# Altium footprint library KitDemov2.PcbLib: 49 footprints (part 1 of 4)
Each footprint in its own frame and in the unit in brackets; x right, y up, seen from the top. Pads: shape width x height; smd on the part's side, far side on the other; paste and mask are expansions set on the pad; w line width, h text height; cw(c..) or ccw(c..) is an arc to the next point about the centre after c.
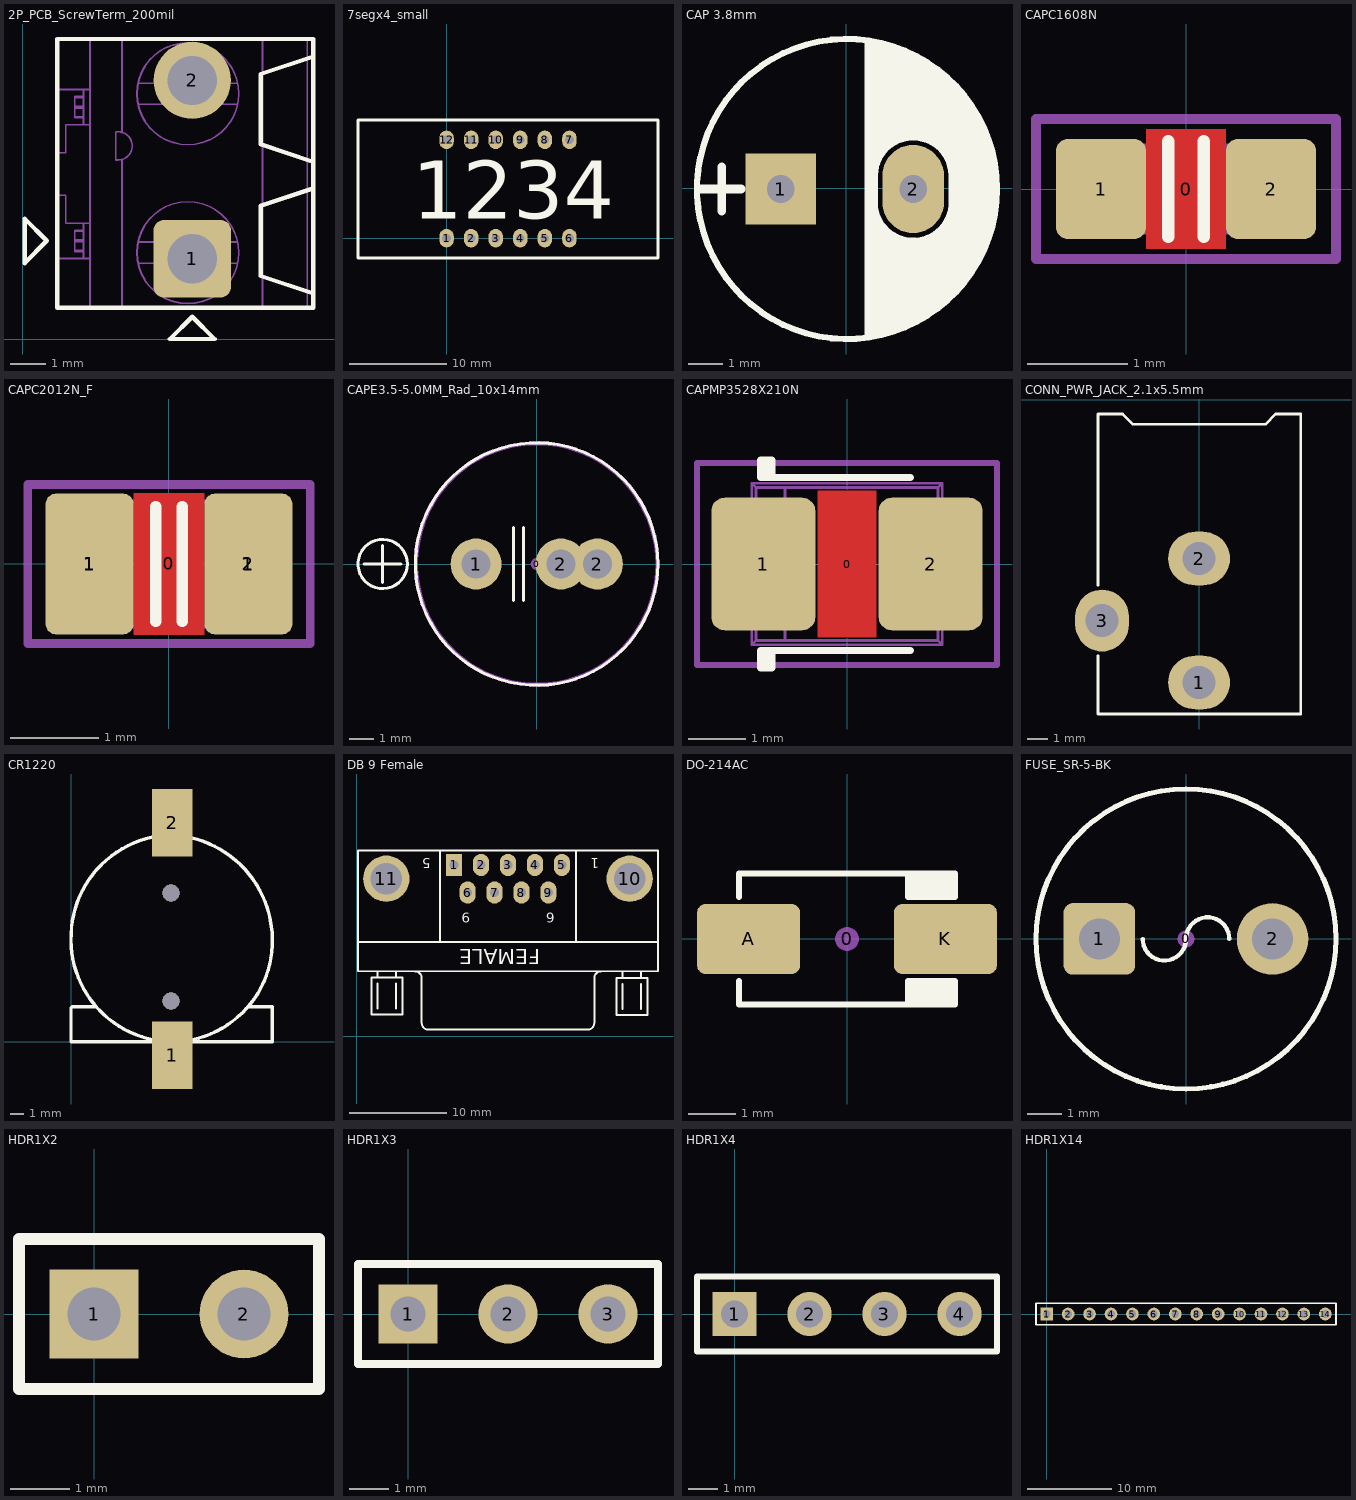
[diagram p0: the footprints below, top view; thin cyan lines are the x and y axes]

## 2P_PCB_ScrewTerm_200mil [mm]
pads (2):
  rrect25% 2.2x2.2 hole 1.4: 1(4.826,2.286)
  round 2.2 hole 1.4: 2(4.826,7.366)
Top Overlay:
  lines w0.127: 8.276,1.294 6.776,1.794 6.776,3.794 8.276,4.294 ; 8.276,5.044 6.776,5.544 6.776,7.544 8.276,8.044 ; 0.051,2.159 0.051,3.429 0.686,2.794 0.051,2.159 ; 0.976,0.889 8.276,0.889 8.276,8.544 0.976,8.544 0.976,0.889 ; 4.191,0 4.826,0.635 5.461,0 4.191,0
Mechanical 13:
  circle w0.05: c4.699,6.985 r1.45
  circle w0.05: c4.699,2.459 r1.45
  lines w0.05: 0.976,2.294 1.911,2.294 1.911,3.294 1.226,3.294 1.226,4.094 0.976,4.094 ; 0.976,5.304 1.226,5.304 1.226,6.104 1.911,6.104 1.911,7.104 0.976,7.104 ; 1.476,2.517 1.726,2.517 ; 1.476,2.767 1.726,2.767 ; 1.476,2.821 1.726,2.821 ; 1.476,3.071 1.726,3.071 ; 1.476,6.327 1.726,6.327 ; 1.476,6.577 1.726,6.577 ; 1.476,6.631 1.726,6.631 ; 1.476,6.881 1.726,6.881 ; 1.726,2.294 1.726,3.294 ; 1.726,2.494 1.476,2.494 1.476,3.094 1.726,3.094 ; 1.726,6.104 1.726,7.104 ; 1.726,6.304 1.476,6.304 1.476,6.904 1.726,6.904 ; 1.916,0.889 1.916,8.509 ; 2.826,0.889 2.826,5.114 ; 2.826,5.884 2.826,8.509 ; 3.28,2.159 6.118,2.159 ; 3.28,2.759 6.118,2.759 ; 3.28,6.685 6.118,6.685 ; 3.28,7.285 6.118,7.285 ; 6.826,0.889 6.826,8.509 ; 8.1,0.889 8.1,8.509 ; 0.976,0.889 8.276,0.889 8.276,8.509 0.976,8.509 0.976,0.889 ; 2.644,5.099 2.644,5.899 2.717,5.899 cw(c2.717,5.499) 2.717,5.099 2.644,5.099
3D body: height 8.5, standoff -3.5, extent 0.976,0.884 8.276,8.504

## 7segx4_small [mm]
pads (12):
  oval 1.5x1.9 hole 0.9: 1(0,0) 2(2.54,0) 3(5.08,0) 4(7.62,0) 5(10.16,0) 6(12.7,0) 7(12.7,10.16) 8(10.16,10.16) 9(7.62,10.16) 10(5.08,10.16) 11(2.54,10.16) 12(0,10.16)
Top Overlay:
  lines w0.3: -9.144,-2.032 -9.144,12.192 21.844,12.192 21.844,-2.032 -9.144,-2.032
  text "1234" at -3.556,2.032 h6
3D body: height 7, standoff -6.2, extent -8.664,-1.92 21.336,12.08

## CAP 3.8mm [mil] "16V 470uF"
height 787.4
pads (2):
  rect 80x80 hole 31.5: 1(-74,-1)
  oval 70x100 hole 31.5: 2(76,-1)
Top Overlay:
  circle w7: c1,-1 r170
  region: 26,24 61,59 88.93,59.33 95.59,58.01 101.24,54.24 101,54 107.63,47.7 110.3,43.71 111.24,39 111,39 116.24,34.24 120.01,28.59 121.33,21.93 121,21.93 121.33,-28.93 120.01,-35.59 116.24,-41.24 116,-41 104.7,-52.63 100.71,-55.3 96,-56.24 96.24,-56.24 90.59,-60.01 83.93,-61.33 83.93,-61 70.14,-61.29 61.23,-60.12 52.92,-56.68 45.79,-51.21 46,-51 34.37,-39.7 31.7,-35.71 30.76,-31 31,-31 26,-31 26,-171 81,-151 121,-121 151,-81 171,-21 171,19 156,69 126,114 91,144 46,164 26,169
  lines w10: -164,-1 -119,-1 ; -141,-26 -141,24 ; 26,-166 26,164 ; 26,24 31,24 ; 31,-21 31,29 ; 31,-11 ccw(c76,-16) 71,-61 ccw(c76,-16) 121,-21 121,14 ccw(c76,14) 76,59 ccw(c76,14) 31,14
3D body: height 445.89, standoff -754.41, extent -158.96,-158.48 156,156.48

## CAPC1608N [mm] "Chip Capacitor, Body 1.6x0.8mm, 0603, IPC Medium Density"
height 0.8
pads (3):
  round 0.254 on Mech14: 0(0,0)
  rrect25% 0.9x1 smd: 1(-0.85,0) 2(0.85,0)
Top Layer:
  pour cut-out: -0.4,0.6 0.4,0.6 0.4,-0.6 -0.4,-0.6
Top Overlay:
  lines w0.127: -0.178,-0.476 -0.178,0.476 ; 0.178,-0.476 0.178,0.476
Mechanical 13:
  lines w0.05: -0.55,-0.43 0.55,-0.43 ; -0.55,0.43 0.55,0.43 ; -0.85,-0.45 -0.85,0.45 -0.55,0.45 -0.55,-0.45 -0.85,-0.45 ; 0.55,-0.45 0.55,0.45 0.85,0.45 0.85,-0.45 0.55,-0.45
Mechanical 14:
  lines w0.1: -1.5,-0.7 -1.5,0.7 1.5,0.7 1.5,-0.7 -1.5,-0.7
3D body: height 0.89, standoff -0.01, extent -0.85,-0.45 0.85,0.45

## CAPC2012N_F [mm] "Chip Capacitor, Body 2.0x1.2mm, 0805, IPC Medium Density, for Flex circuits"
height 1.2
pads (7):
  round 0.254 on Mech14: 0(0,0)
  rrect50% 1.2x1.4 on Top Solder: 1(-0.9,0) 1(0.9,0)
  rrect25% 1x1.6 smd paste-1: 1(-0.9,0) 2(0.9,0)
  rrect50% 1x1.4 on Top Paste: 1(-0.9,0) 1(0.9,0)
Top Layer:
  pour cut-out: -0.4,0.8 0.4,0.8 0.4,-0.8 -0.4,-0.8
Top Overlay:
  lines w0.127: -0.15,-0.651 -0.15,0.651 ; 0.15,-0.651 0.15,0.651
Mechanical 13:
  lines w0.05: -0.8,-0.705 0.8,-0.705 ; -0.8,0.705 0.8,0.705 ; -1.1,-0.725 -0.8,-0.725 -0.8,0.725 -1.1,0.725 -1.1,-0.725 ; 0.8,-0.725 0.8,0.725 1.1,0.725 1.1,-0.725 0.8,-0.725
Mechanical 14:
  lines w0.1: -1.6,-0.9 1.6,-0.9 1.6,0.9 -1.6,0.9 -1.6,-0.9
3D body: height 1.34, standoff -0.01, extent -1.1,-0.725 1.1,0.725

## CAPE3.5-5.0MM_Rad_10x14mm [mm] "3.5 & 5.0mm Pitch Radial Capacitor 10x14mm DxH"
height 14
pads (4):
  round 0.5 on Mech14: 0(0,0)
  round 2.1 hole 1.2: 1(-2.5,0) 2(1,0) 2(2.5,0)
Top Overlay:
  circle w0.127: c0,0 r5
  circle w0.127: c-6.35,0 r1.016
  lines w0.127: -7.112,0 -5.588,0 ; -6.35,-0.762 -6.35,0.762 ; -0.95,-1.5 -0.95,1.5 ; -0.55,-1.5 -0.55,1.5
Mechanical 13:
  circle w0.127: c0,0 r4.953
Mechanical 14:
  circle w0.127: c0,0 r5
3D body: height 13.99, standoff -3.51, extent -5.25,-5.237 5.206,5.237

## CAPMP3528X210N [mm] "Molded body capacitor, Body 3.5x2.8mm, 1210, IPC Nominal settings"
height 2.1
pads (3):
  round 0.254 on Mech14: 0(0,0)
  rrect25% 1.8x2.3 smd: 1(-1.45,0) 2(1.45,0)
Top Layer:
  pour cut-out: -0.508,1.27 0.508,1.27 0.508,-1.27 -0.508,-1.27
Top Overlay:
  lines w0.127: -1.4,-1.8 -1.4,-1.5 ; -1.4,1.5 -1.4,1.8 ; -1.3,-1.5 -1.3,-1.8 -1.5,-1.8 -1.5,-1.5 1.1,-1.5 ; -1.3,1.5 -1.3,1.8 -1.5,1.8 -1.5,1.5 1.1,1.5
Mechanical 13:
  lines w0.05: -1.75,-0.55 -1.65,-0.55 ; -1.75,0.55 -1.65,0.55 ; -1.65,-1.1 -1.75,-1.1 -1.75,1.1 -1.65,1.1 ; -1.077,-1.327 -1.077,1.327 ; 1.65,-1.1 1.75,-1.1 1.75,1.1 1.65,1.1 ; 1.65,-0.55 1.75,-0.55 ; 1.65,0.55 1.75,0.55 ; -1.65,-1.4 -1.577,-1.327 ; -1.65,-1.4 -1.65,1.4 ; -1.65,-1.4 1.65,-1.4 ; -1.65,1.4 -1.577,1.327 ; -1.65,1.4 1.65,1.4 ; -1.577,-1.327 -1.577,1.327 ; -1.577,-1.327 1.577,-1.327 ; -1.577,1.327 1.577,1.327 ; 1.577,-1.327 1.577,1.327 ; 1.577,-1.327 1.65,-1.4 ; 1.577,1.327 1.65,1.4 ; 1.65,-1.4 1.65,1.4
Mechanical 14:
  lines w0.1: -2.6,-1.75 -2.6,1.75 2.6,1.75 2.6,-1.75 -2.6,-1.75
3D body: height 2.1, standoff 0, extent -1.75,-1.4 1.75,1.4

## CONN_PWR_JACK_2.1x5.5mm [mm] "Power Connector, 2.1mm ID, 5.5mm OD"
height 11
pads (3):
  oval 3x2.6 hole 1.6: 1(0,-13.7) 2(0,-7.7)
  oval 2.6x3 hole 1.6: 3(-4.7,-10.7)
Top Overlay:
  lines w0.127: -4.9,-12.4 -4.9,-15.225 4.925,-15.225 4.925,-0.7 3.7,-0.7 3.2,-1.2 -3.2,-1.2 -3.7,-0.7 -4.9,-0.7 -4.9,-9
Mechanical 13:
  lines w0.076: -4.9,-12.4 -4.9,-15.225 4.925,-15.225 4.925,-0.7 3.7,-0.7 3.2,-1.2 -3.2,-1.2 -3.7,-0.7 -4.9,-0.7 -4.9,-9
3D body: height 11, standoff -3.5, extent -4.9,-14.1 4.5,0

## CR1220 [mm]
pads (2):
  rect 3x5 smd: 1(7.5,-1) 2(7.5,16.2)
via 7.4,3 diameter 1.27 hole 1.27
via 7.4,11 diameter 1.27 hole 1.27
Top Overlay:
  lines w0.254: 0,2.5 0,0 14.9,0 ; 0.1,2.6 1.8,2.6 ; 7,15.3 cw(c7.1,7.5) 14.9,7.6 cw(c7.45,7.45) 7.6,0 cw(c7.55,7.55) 0,7.5 cw(c7.6,7.7) 7.4,15.3 ; 13.1,2.6 14.9,2.6 14.9,0 ; 14.9,0.1 14.9,2.5 ; 14.9,0.2 14.9,0
3D body: height 4.23, standoff -0.52, extent -0.017,-2.036 14.732,16.764

## DB 9 Female [mil] "COM DB 9 Female"
pads (11):
  rect 65x90 hole 35.43: 1(393.89,692.91)
  oval 65x90 hole 35.43: 2(502.95,692.91) 3(612,692.91) 4(721.06,692.91) 5(830.11,692.91) 6(448.42,581.09) 7(557.47,581.09) 8(666.53,581.09) 9(775.58,581.09)
  round 187.4 hole 128.35: 10(1103.93,637) 11(120.07,637)
Top Overlay:
  lines w7.87: 5.7,381.09 1218.3,381.09 ; 235.62,262.79 cw(c235.62,235.43) 262.98,235.43 262.98,54.32 ; 263.18,54.13 ccw(c290.54,54.13) 290.54,26.76 933.46,26.76 ccw(c933.46,54.13) 960.82,54.13 ; 336.41,381.09 336.41,751.17 ; 887.59,381.09 887.59,751.17 ; 961.02,54.32 961.02,235.43 cw(c988.38,235.43) 988.38,262.79 ; 5.7,262.98 5.7,751.17 1218.3,751.17 1218.3,262.98 5.7,262.98
  lines w8: 85,112.98 85,212.98 ; 85,237.98 85,262.98 ; 160,112.98 160,212.98 ; 160,237.98 160,262.98 ; 1075,110.98 1075,210.98 ; 1075,235.98 1075,260.98 ; 1150,110.98 1150,210.98 ; 1150,235.98 1150,260.98 ; 60,87.98 60,237.98 185,237.98 185,87.98 60,87.98 ; 1050,85.98 1050,235.98 1175,235.98 1175,85.98 1050,85.98
  text "FEMALE" at 742,352 h60
  text "1" at 980,720 h40
  text "5" at 300,720 h40
  text "9" at 460,500 h40
  text "6" at 800,500 h40
3D body: height 490.16, standoff -179.13, extent 5,17 1217.99,747.32

## DO-214AC [mm] "JEDEC DO214 variation AC. SMA"
height 2.5
pads (3):
  round 0.508 on Mech14: 0(0,0)
  rrect25% 2.2x1.5 smd: A(-2.1,0) K(2.1,0)
Top Overlay:
  rectangle: 1.3,0.9 2.3,1.4
  rectangle: 1.3,-1.4 2.3,-0.9
  lines w0.127: -2.3,-0.9 -2.3,-1.4 2.3,-1.4 2.3,-0.9 1.3,-0.9 1.3,-1.4 ; -2.3,0.9 -2.3,1.4 2.3,1.4 2.3,0.9 1.3,0.9 ; 1.3,0.911 1.3,1.4
3D body: height 2.42, standoff 0.02, extent -2.6,-1.3 2.6,1.3

## FUSE_SR-5-BK [mm]
height 9.3
pads (3):
  round 0.5 on Mech14: 0(0,0)
  rrect25% 2.1x2.1 hole 1.2: 1(-2.54,0)
  round 2.1 hole 1.2: 2(2.54,0)
Top Overlay:
  circle w0.152: c0,0 r4.4
  lines w0.127: -1.27,0 ccw(c-0.635,0) 0,0 cw(c0.635,0) 1.27,0
Mechanical 13:
  circle w0.127: c0,-0.003 r4.4
3D body: height 8.29, standoff -2.55, extent -4.35,-4.321 4.35,4.315

## HDR1X2 [mm] "Connector; Header; 2 Position"
pads (2):
  rect 1.5x1.5 hole 0.9: 1(0,0)
  round 1.5 hole 0.9: 2(2.54,0)
Top Overlay:
  lines w0.2: -1.27,-1.27 3.81,-1.27 3.81,1.27 -1.27,1.27 -1.27,-1.27

## HDR1X3 [mm] "Connector; Header; 3 Position"
pads (3):
  rect 1.5x1.5 hole 0.9: 1(0,0)
  round 1.5 hole 0.9: 2(2.54,0) 3(5.08,0)
Top Overlay:
  lines w0.2: -1.27,-1.27 -1.27,1.27 ; -1.27,-1.27 6.35,-1.27 6.35,1.27 -1.27,1.27 ; -1.27,-1.27 -1.27,1.27
3D body: height 7, standoff -1, extent 4.674,-0.406 5.47,0.392
3D body: height 1.5, standoff 0, extent 3.81,-1.27 6.35,1.27
3D body: height 7, standoff -1, extent 2.134,-0.406 2.93,0.392
3D body: height 1.5, standoff 0, extent 1.27,-1.27 3.81,1.27
3D body: height 7, standoff -1, extent -0.406,-0.406 0.39,0.392
3D body: height 1.5, standoff 0, extent -1.27,-1.27 1.27,1.27

## HDR1X4 [mm] "Connector; Header; 4 Position"
pads (4):
  rect 1.5x1.5 hole 0.9: 1(0,0)
  round 1.5 hole 0.9: 2(2.54,0) 3(5.08,0) 4(7.62,0)
Top Overlay:
  lines w0.2: -1.27,-1.27 8.89,-1.27 8.89,1.27 -1.27,1.27 -1.27,-1.27

## HDR1X14 [mm] "Connector; Header; 14 Position"
pads (14):
  rect 1.5x1.5 hole 0.9: 1(0,0)
  round 1.5 hole 0.9: 2(2.54,0) 3(5.08,0) 4(7.62,0) 5(10.16,0) 6(12.7,0) 7(15.24,0) 8(17.78,0) 9(20.32,0) 10(22.86,0) 11(25.4,0) 12(27.94,0) 13(30.48,0) 14(33.02,0)
Top Overlay:
  lines w0.2: -1.27,-1.27 -1.27,1.27 0.635,1.27 34.29,1.27 34.29,-1.27 -1.27,-1.27